# Altium footprint library tps54312-2016-04-09_23-25-45.PcbLib: 4 footprints
Each footprint in its own frame and in the unit in brackets; x right, y up, seen from the top. Pads: shape width x height; smd on the part's side, far side on the other; paste and mask are expansions set on the pad; w line width, h text height; cw(c..) or ccw(c..) is an arc to the next point about the centre after c.
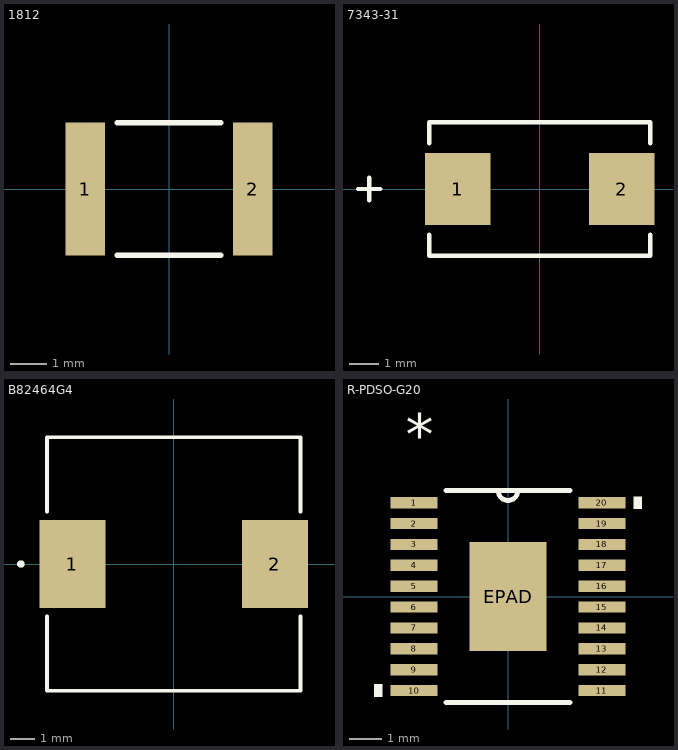
[diagram p0: the footprints below, top view; thin cyan lines are the x and y axes]

## 1812 [mil]
pads (2):
  rect 42x142 smd: 1(-89.5,0) 2(89.5,0)
Top Overlay:
  lines w6: -55.4,-71 55.4,-71 ; -55.4,71 55.4,71

## 7343-31 [mil]
pads (2):
  rect 89x98 smd: 1(-111,0) 2(111,0)
Top Overlay:
  lines w6: -246,0 -216,0 ; -231,-15 -231,15 ; -149.5,-62.1 -149.5,-90.5 149.5,-90.5 149.5,-62.1 ; -149.5,62.1 -149.5,90.5 149.5,90.5 149.5,62.1

## B82464G4 [mil]
pads (2):
  rect 106.5x142 smd: 1(-163.25,0) 2(163.25,0)
Top Overlay:
  circle w6: c-246.5,0 r3
  lines w6: -204.5,-84.1 -204.5,-204.5 204.5,-204.5 204.5,-84.1 ; -204.5,84.1 -204.5,204.5 204.5,204.5 204.5,84.1

## R-PDSO-G20 [mm]
pads (21):
  rect 1.461x0.351 smd: 1(-2.925,2.925) 2(-2.925,2.275) 3(-2.925,1.625) 4(-2.925,0.975) 5(-2.925,0.325) 6(-2.925,-0.325) 7(-2.925,-0.975) 8(-2.925,-1.625) 9(-2.925,-2.275) 10(-2.925,-2.925) 11(2.925,-2.925) 12(2.925,-2.275) 13(2.925,-1.625) 14(2.925,-0.975) 15(2.925,-0.325) 16(2.925,0.325) 17(2.925,0.975) 18(2.925,1.625) 19(2.925,2.275) 20(2.925,2.925)
  rect 2.4x3.4 smd paste-1.687: EPAD(0,0)
Top Overlay:
  region: -3.91,-2.734 -4.164,-2.734 -4.164,-3.115 -3.91,-3.115
  region: 3.91,3.115 4.164,3.115 4.164,2.734 3.91,2.734
  lines w0.152: -1.928,-3.3 1.928,-3.3 ; -1.928,3.3 1.928,3.3 ; -0.305,3.3 ccw(c0,3.3) 0.305,3.3
  text "*" at -3.179,4.419 h1.27
Top Paste:
  region: 1.1,1.6 -1.1,1.6 -1.1,0.1 1.1,0.1
  region: 1.1,-0.1 -1.1,-0.1 -1.1,-1.6 1.1,-1.6